# EAGLE library part SI-52008-F (library SI-52008-F)
Magjack 10BASE T POE with LEDS Bel-Stewart RJ Socket Module, STP, Straight Source: Datasheet <http://docs-emea.rs-online.com/webdocs/1002/0900766b81002b9a.pdf>
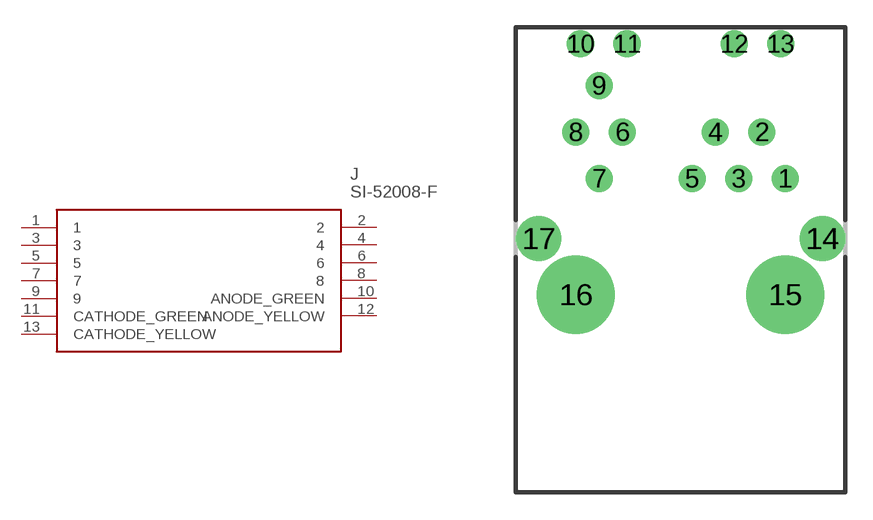
[diagram p0: symbol with the pads of SI-52007-F_1; footprint SI-52007-F_1]

Designator prefix J

## SI-52008-F (Allied_Number: R1013680; Allied_Price-Stock: https://www.alliedelec.com/stewart-connectors-si-52008-f/R1013680/; Description: Magjack 10BASE T POE with LEDS Bel-Stewart RJ Socket Module, STP, Straight; Height: mm; Manufacturer_Name: Bel-Stewart; Manufacturer_Part_Number: SI-52008-F; Mouser_Part_Number: 530-SI-52008-F; Mouser_Price-Stock: https://www.mouser.com/Search/Refine.aspx?Keyword=530-SI-52008-F; RS_Part_Number: 7418473; RS_Price-Stock: https://uk.rs-online.com/web/p/products/7418473)  [SI-52007-F_1]
1  1
2  2
3  3
4  4
5  5
6  6
7  7
8  8
9  9
10  ANODE_GREEN
11  CATHODE_GREEN
12  ANODE_YELLOW
13  CATHODE_YELLOW

## Footprint SI-52007-F_1 (pad centres in mm)
SI-52007-F
drill 0.97 pad 1.47: 1 5.715,3.281; 2 4.445,5.821; 3 3.175,3.281; 4 1.905,5.821; 5 0.635,3.281; 6 -3.175,5.821; 7 -4.445,3.281; 8 -5.715,5.821; 9 -4.445,8.361; 10 -5.465,10.651; 11 -2.925,10.651; 12 2.925,10.651; 13 5.465,10.651
drill 1.65 pad 2.4: 14 7.745,0; 17 -7.745,0
drill 3.25 pad 3.25: 15 5.715,-3.069; 16 -5.715,-3.069